# Altium schematic symbol library SCH - AMP AUDIO - ANALOG SSM2335CBZ-R2.SchLib: 1 symbol
Pins are listed as number, name and electrical type; pins without a type are passive.

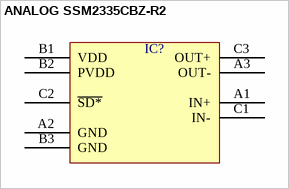
[diagram p0: symbol ANALOG SSM2335CBZ-R2]

## ANALOG SSM2335CBZ-R2
designator IC?  (value not drawn)
pins: A1 IN+, A2 GND, A3 OUT-, B1 VDD, B2 PVDD, B3 GND, C1 IN-, C2 ~{SD*}, C3 OUT+